# Altium schematic symbol library ERJ-3BWFR062V.SchLib: 1 symbol
Pins are listed as number, name and electrical type; pins without a type are passive.

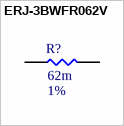
[diagram p0: symbol ERJ-3BWFR062V]

## ERJ-3BWFR062V
designator R?  Resistance: 62m  Tolerance: 1%  (hidden comment: ERJ-3BWFR062V)
RES 0.062 OHM 1% 1/3W 0603; MFR: Panasonic Electronic Components; PN: ERJ-3BWFR062V; Footprint: RES0603; Package: 0603; ComponentLink1Description: Datasheet; ComponentLink1URL: https://industrial.panasonic.com/cdbs/www-data/pdf/RDN0000/AOA0000C313.pdf; Power Rating: 1/3W; Supplier 1: Digi-Key; Supplier Part Number 1: P17474CT-ND
footprint RES0603 (Generic 0603)
pins: 1, 2